# Altium footprint library CLK_DISTRO.PcbLib: 10 footprints
Each footprint in its own frame and in the unit in brackets; x right, y up, seen from the top. Pads: shape width x height; smd on the part's side, far side on the other; paste and mask are expansions set on the pad; w line width, h text height; cw(c..) or ccw(c..) is an arc to the next point about the centre after c.
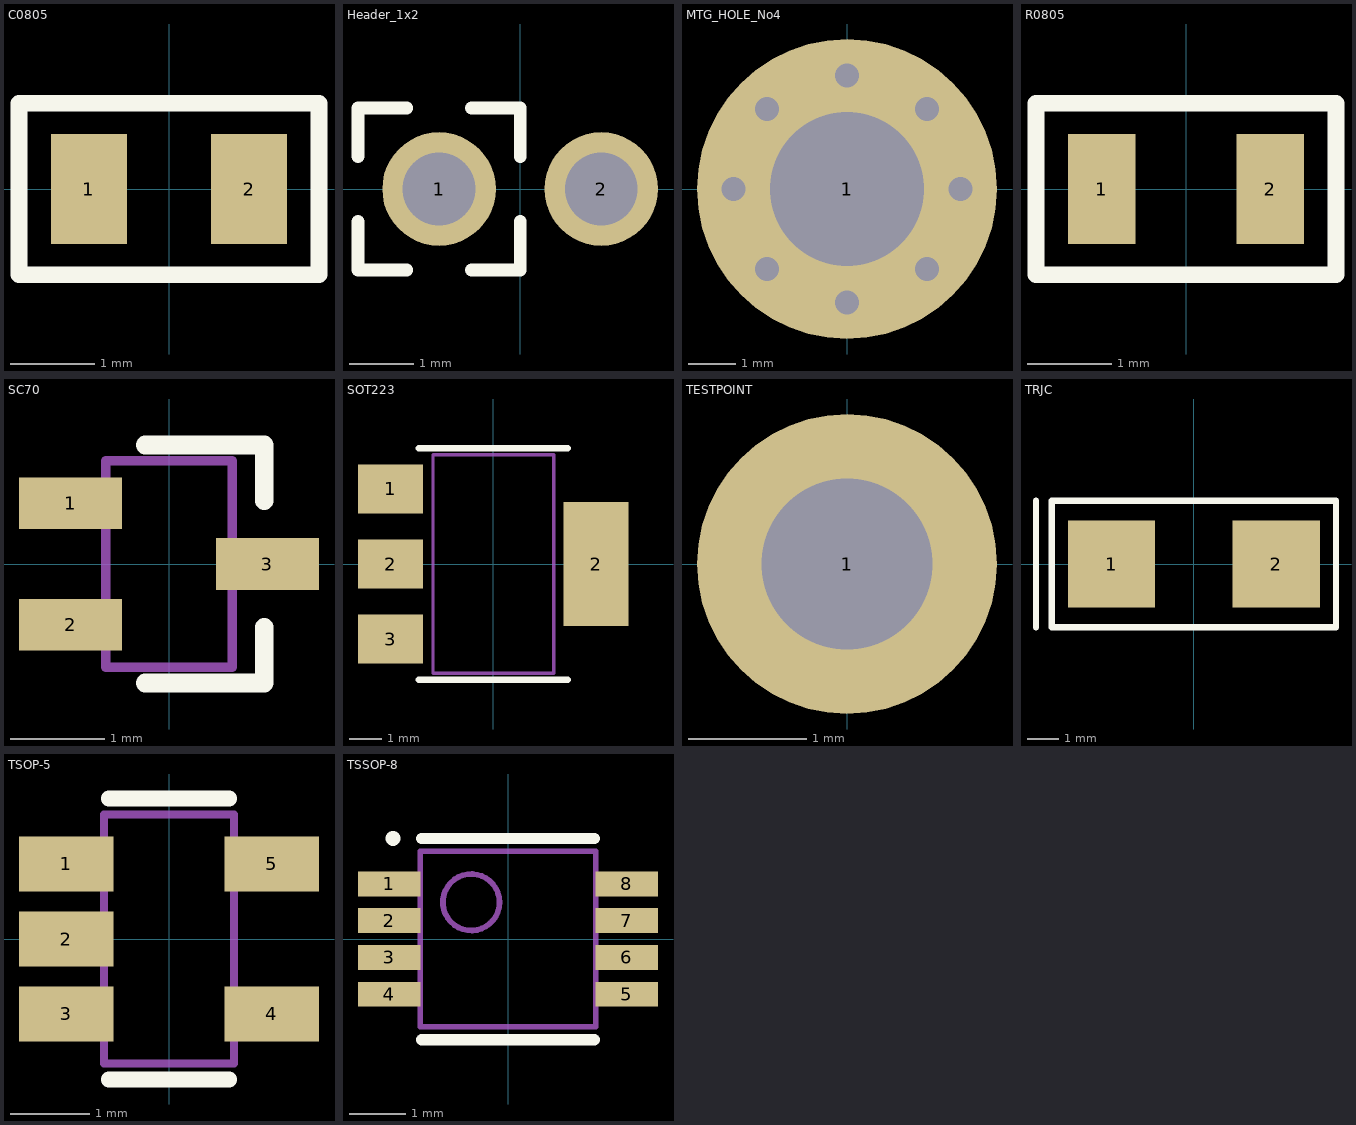
[diagram p0: the footprints below, top view; thin cyan lines are the x and y axes]

## C0805 [mm]
pads (2):
  rect 0.9x1.3 smd: 1(-0.95,0) 2(0.95,0)
Top Overlay:
  lines w0.2: -1.778,-1.016 1.778,-1.016 1.778,1.016 -1.778,1.016 -1.778,-1.016
3D body: height 1.25, standoff 0, extent -1.016,-0.508 1.016,0.508

## Header_1x2 [mil]
pads (2):
  round 70 hole 45: 1(-50,0) 2(50,0)
Top Overlay:
  lines w7.87: -100,-20 -100,-50 -70,-50 ; -100,20 -100,50 -70,50 ; -30,-50 0,-50 0,-20 ; -30,50 0,50 0,20

## MTG_HOLE_No4 [mil]
pads (1):
  round 250 hole 128: 1(0,0)
via 0,94.5 diameter 44 hole 20
via 66.82,66.82 diameter 44 hole 20
via 94.5,0 diameter 44 hole 20
via 66.82,-66.82 diameter 44 hole 20
via 0,-94.5 diameter 44 hole 20
via -66.82,-66.82 diameter 44 hole 20
via -94.5,0 diameter 44 hole 20
via -66.82,66.82 diameter 44 hole 20

## R0805 [mm]
pads (2):
  rect 0.8x1.3 smd: 1(-1,0) 2(1,0)
Top Overlay:
  lines w0.2: -1.778,-1.016 1.778,-1.016 1.778,1.016 -1.778,1.016 -1.778,-1.016
3D body: height 0.5, standoff 0, extent -1.016,-0.508 1.016,0.508

## SC70 [mm] "SOT23, 3-Leads, Body 2.00x2.10mm, Pitch 0.65mm, IPC Low Density"
height 1.1
pads (3):
  rect 1.1x0.55 smd: 1(-1.05,0.65) 2(-1.05,-0.65) 3(1.05,0)
Top Overlay:
  lines w0.2: -0.254,-1.27 1.016,-1.27 1.016,-0.675 ; -0.254,1.27 1.016,1.27 1.016,0.675
Mechanical 13:
  lines w0.1: -0.675,-1.1 0.675,-1.1 0.675,1.1 -0.675,1.1 -0.675,-1.1
3D body "SOT65P210X110-3M.step": height 1.1, standoff 0, extent -1.2,-1.1 1.2,1.1

## SOT223 [mm] "SOT223, 4-Leads, Body 6.50x7.00mm (avg), Pitch 2.30mm, IPC Low Density"
height 1.8
pads (4):
  rect 2x1.5 smd: 1(-3.15,2.3) 2(-3.15,0) 3(-3.15,-2.3)
  rect 2x3.8 smd: 2(3.15,0)
Top Overlay:
  lines w0.2: -2.286,-3.556 2.286,-3.556 ; -2.286,3.556 2.286,3.556
Mechanical 13:
  lines w0.1: -1.85,-3.35 1.85,-3.35 1.85,3.35 -1.85,3.35 -1.85,-3.35
3D body "SOT223.step": height 1.8, standoff 0, extent -3.65,-3.35 3.65,3.35

## TESTPOINT [mil]
pads (1):
  round 100 hole 57: 1(0,0)

## TRJC [mm]
pads (2):
  rect 2.8x2.8 smd: 1(-2.65,0) 2(2.65,0)
Top Overlay:
  lines w0.2: -5.08,-2.032 -5.08,2.032 ; -4.572,-2.032 -4.572,2.032 4.572,2.032 4.572,-2.032 -4.572,-2.032
3D body: height 2.6, standoff 0, extent -3,-1.6 3,1.6

## TSOP-5 [mm] "SOT23, 5-Leads, Body 3.00x2.75mm, Pitch 0.95mm, IPC Low Density"
height 1.1
pads (5):
  rect 1.2x0.7 smd: 1(-1.3,0.95) 2(-1.3,0) 3(-1.3,-0.95) 4(1.3,-0.95) 5(1.3,0.95)
Top Overlay:
  lines w0.2: -0.762,-1.778 0.762,-1.778 ; -0.762,1.778 0.762,1.778
Mechanical 13:
  lines w0.1: -0.825,-1.575 -0.825,1.575 0.825,1.575 0.825,-1.575 -0.825,-1.575
3D body "TSOP-5.step": height 1.1, standoff 0, extent -1.5,-1.575 1.5,1.575

## TSSOP-8 [mm] "TSOP, 8-Leads, Body 3.00x3.00mm, Pitch 0.65mm, IPC Low Density"
height 1.1
pads (8):
  rect 1.1x0.44 smd: 1(-2.1,0.975) 2(-2.1,0.325) 3(-2.1,-0.325) 4(-2.1,-0.975) 5(2.1,-0.975) 6(2.1,-0.325) 7(2.1,0.325) 8(2.1,0.975)
Top Overlay:
  circle w0.254: c-2.032,1.778 r0.003
  lines w0.2: -1.524,-1.778 1.524,-1.778 ; -1.524,1.778 1.524,1.778
Mechanical 13:
  circle w0.1: c-0.65,0.65 r0.5
  lines w0.1: -1.55,-1.55 1.55,-1.55 1.55,1.55 -1.55,1.55 -1.55,-1.55
3D body "TSSOP-8.step": height 1.1, standoff 0, extent -1.993,-1.55 1.993,1.55